# EAGLE library part POTDUAL (library ld-components)
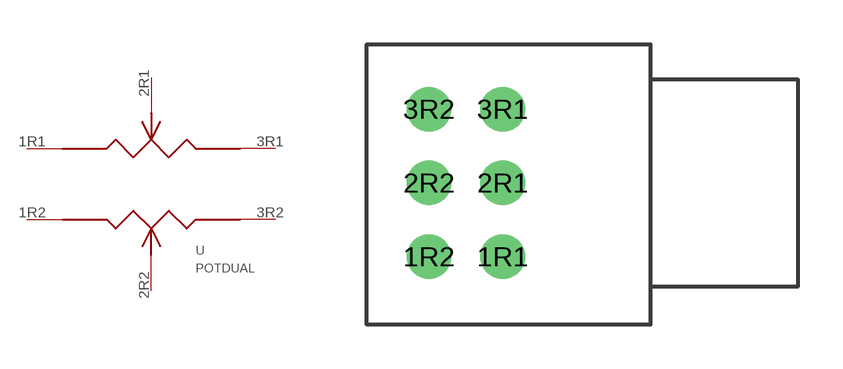
[diagram p15: symbol with the pads of PTD902; footprint PTD902]

Designator prefix -

## POTDUAL  [PTD902]
1R1  1R1
1R2  1R2
2R1  2R1
2R2  2R2
3R1  3R1
3R2  3R2

## Footprint PTD902 (pad centres in mm)
drill 1: 1R1 -5,-2.5; 1R2 -7.5,-2.5; 2R1 -5,0; 2R2 -7.5,0; 3R1 -5,2.5; 3R2 -7.5,2.5